# Altium schematic symbol library LM2940IMPX-5P0NOPB.SchLib: 1 symbol
Pins are listed as number, name and electrical type; pins without a type are passive.

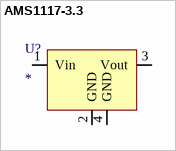
[diagram p0: symbol AMS1117-3.3]

## AMS1117-3.3
designator U?
Value: *
pins: 1 Vin, 2 GND, 3 Vout, 4 GND